# Altium integrated library Silicon Labs Interface.IntLib: 24 symbols (part 1 of 2)
Pins are listed as number, name and electrical type; pins without a type are passive.

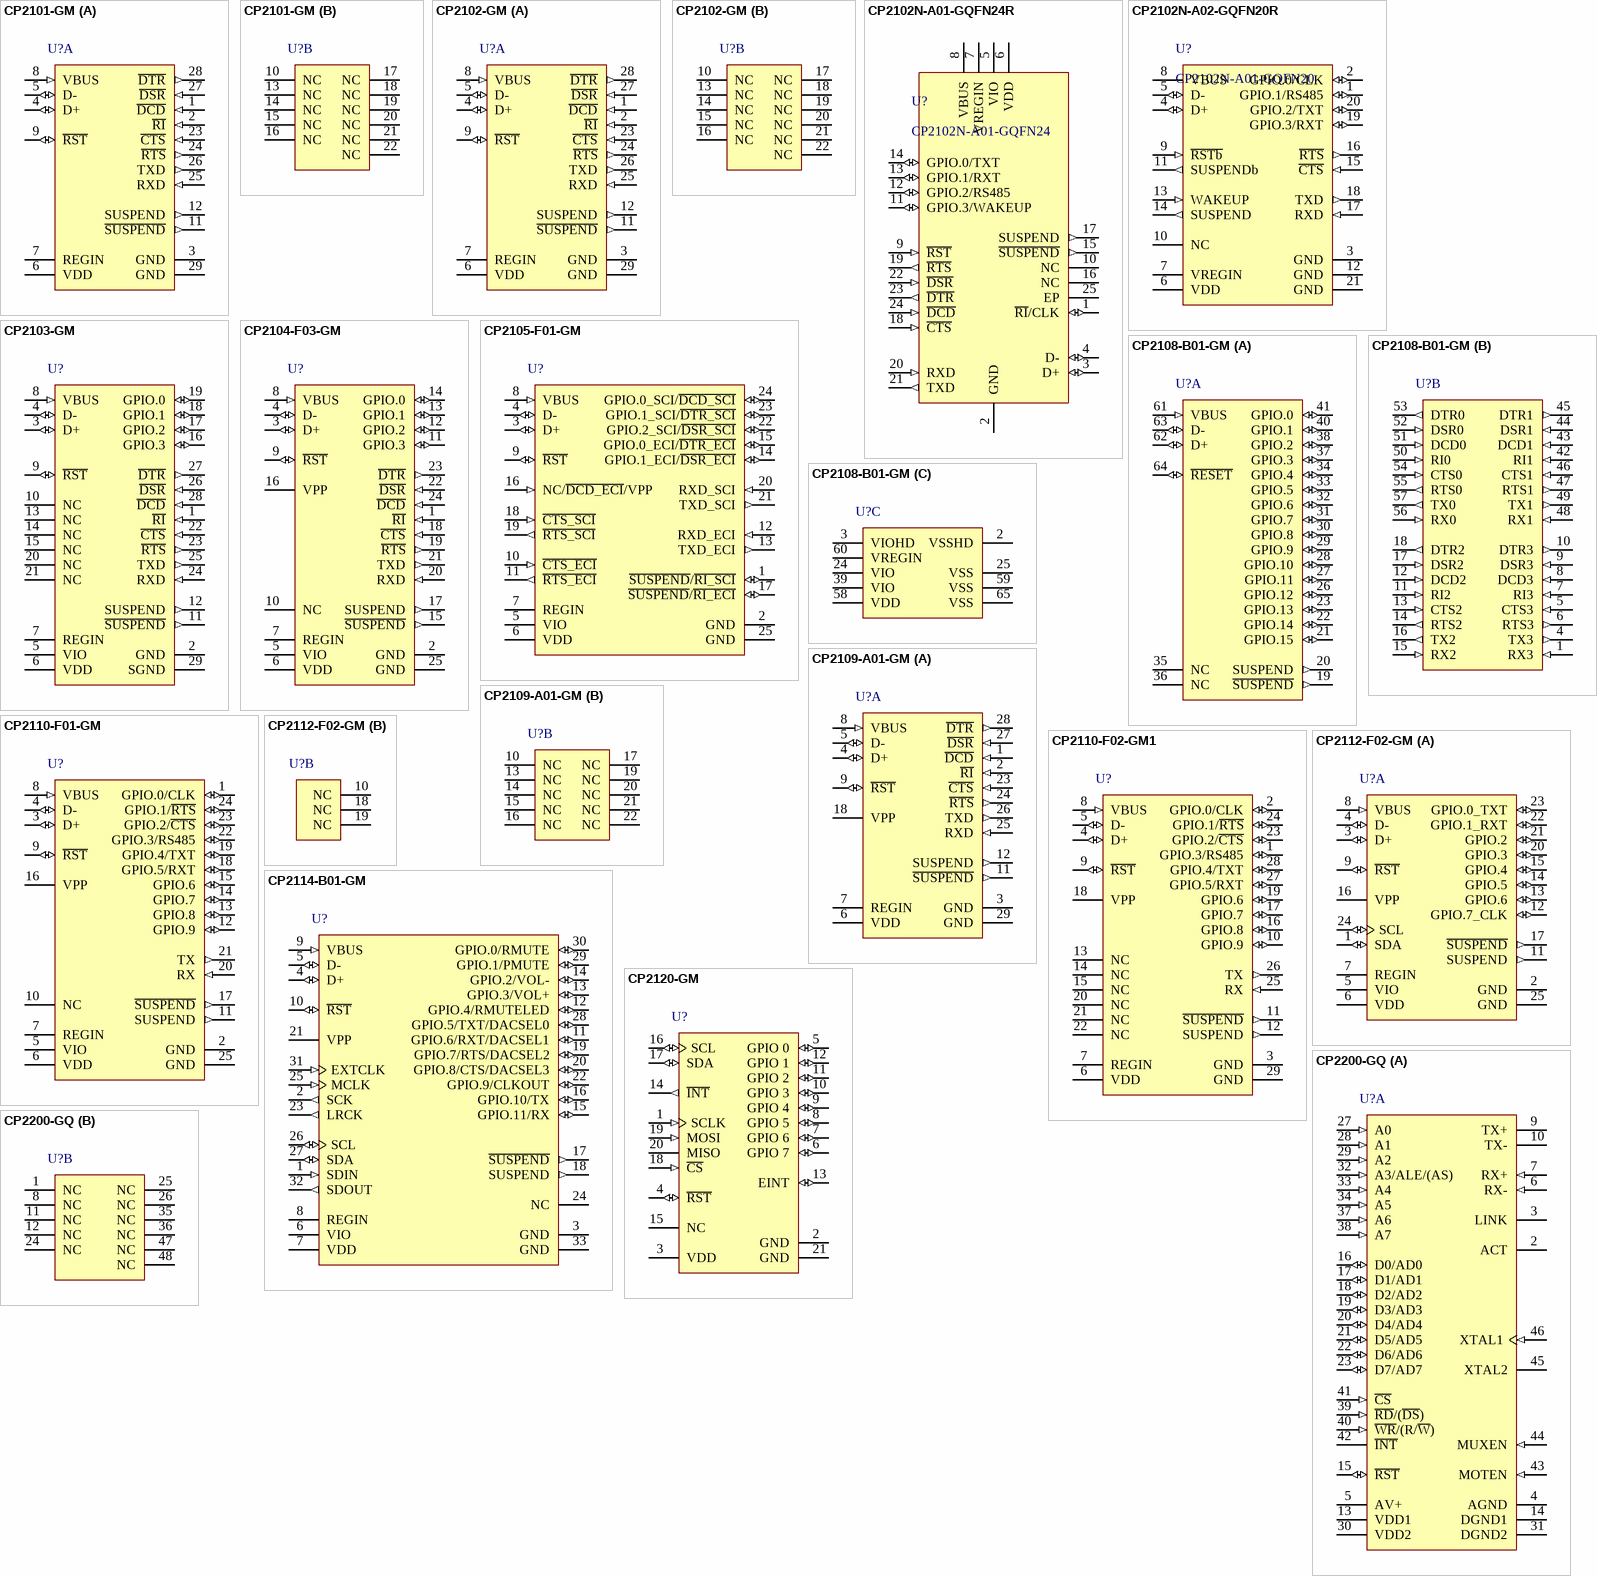
[diagram p0: symbols CP2101-GM to CP2200-GQ]

## CP2101-GM
designator U?
Single-Chip USB to UART Bridge, 512 Bytes EEPROM, -40 to 85 degC, 28-pin QFN, Tube; Manufacturer: Silicon Labs; PartNumber: CP2101-GM; Internal Oscillator: TRUE; Sub-Family: USB Bridges; DatasheetVersion: Rev. 1.8; PackageReference: QFN-28; PackageDescription: 28-Pin Quad-Flat No-Leads Package, Body 5 x 5 mm, Pitch 0.5 mm; Supplier 1: Digi-Key; Supplier Part Number 1: 336-1162-ND; Supplier 2: Mouser; Supplier Part Number 2: 634-CP2101-GM; EEPROM: 512 Bytes; Mounting Technology: Surface Mount; ComponentLink1Description: Manufacturer URL; ComponentLink1URL: http://www.silabs.com/; ComponentLink2Description: Datasheet; ComponentLink2URL: http://www.silabs.com/Support%20Documents/TechnicalDocs/CP2101.pdf; ComponentLink3Description: Package Specification; ComponentLink3URL: http://www.silabs.com/Support%20Documents/TechnicalDocs/C8051F35x.pdf
footprint SLAB-QFN-28-3125x3125TP_A_N (QFN, 28-Leads, Body 5x5mm, Pitch 0.5mm, Thermal Pad 3.13x3.13mm, IPC Medium Density)
footprint SLAB-QFN-28-3125x3125TP_A_L (QFN, 28-Leads, Body 5x5mm, Pitch 0.5mm, Thermal Pad 3.13x3.13mm, IPC High Density)
footprint SLAB-QFN-28-3125x3125TP_A_M (QFN, 28-Leads, Body 5x5mm, Pitch 0.5mm, Thermal Pad 3.13x3.13mm, IPC Low Density)
part A pins: 1 ~{DCD} (in) "Data Carrier Detect control input (active low)", 2 ~{RI} (in) "Ring Indicator control input (active low)", 3 GND (power) "Ground", 4 D+ (io) "USB D+", 5 D- (io) "USB D-", 6 VDD (power) "3.0-3.6 V Power Supply Voltage Input. 3.3 V Voltage Regulator Output", 7 REGIN (power) "5 V Regulator Input. This pin is the input to the on-chip voltage regulator.", 8 VBUS (in) "VBUS Sense Input. This pin should be connected to the VBUS signal of a USB network. A 5 V signal on this pin indicates a USB network connection.", 9 ~{RST} (io) "Device Reset. Open-drain output of internal POR or VDD monitor. An external source can initiate a system reset by driving this pin low for at least 15 us.", 11 ~{SUSPEND} (out), 12 SUSPEND (out), 23 ~{CTS} (in) "Clear To Send control input (active low)", 24 ~{RTS} (out) "Ready to Send control output (active low)", 25 RXD (in) "Asynchronous data input (UART Receive)", 26 TXD (out) "Asynchronous data output (UART Transmit)", 27 ~{DSR} (in) "Data Set Ready control input (active low)", 28 ~{DTR} (out) "Data Terminal Ready control output (active low)", 29 GND (power) "Ground"
part B pins: 10 NC "These pins should be left unconnected or tied to VDD.", 13 NC "These pins should be left unconnected or tied to VDD.", 14 NC "These pins should be left unconnected or tied to VDD.", 15 NC "These pins should be left unconnected or tied to VDD.", 16 NC "These pins should be left unconnected or tied to VDD.", 17 NC "These pins should be left unconnected or tied to VDD.", 18 NC "These pins should be left unconnected or tied to VDD.", 19 NC "These pins should be left unconnected or tied to VDD.", 20 NC "These pins should be left unconnected or tied to VDD.", 21 NC "These pins should be left unconnected or tied to VDD.", 22 NC "These pins should be left unconnected or tied to VDD."

## CP2102-GM
designator U?
Single-Chip USB to UART Bridge, 1024 Bytes EEPROM, -40 to 85 degC, 28-pin QFN, Tube; Manufacturer: Silicon Labs; PartNumber: CP2102-GM; Internal Oscillator: TRUE; Sub-Family: USB Bridges; DatasheetVersion: Rev. 1.5; PackageReference: QFN-28; PackageDescription: 28-Pin Quad-Flat No-Leads Package, Body 5 x 5 mm, Pitch 0.5 mm; Supplier 1: Digi-Key; Supplier Part Number 1: 336-1160-5-ND; Supplier 2: Farnell; Supplier Part Number 2: 9282130; Supplier 3: Newark; Supplier Part Number 3: 30K5635; Supplier 4: Mouser; Supplier Part Number 4: 634-CP2102-GM; EEPROM: 1024 Bytes; Mounting Technology: Surface Mount; Code_JEDEC: MO-220; Code_IPC: J-STD-020C; ComponentLink1Description: Manufacturer URL; ComponentLink1URL: http://www.silabs.com/; ComponentLink2Description: Datasheet; ComponentLink2URL: http://www.silabs.com/Support%20Documents/TechnicalDocs/CP2102-9.pdf; ComponentLink3Description: Package Specification; ComponentLink3URL: http://www.silabs.com/Support%20Documents/TechnicalDocs/C8051T61x.pdf
footprint SLAB-QFN-28-3125x3125TP_N (QFN, 28-Leads, Body 5x5mm, Pitch 0.5mm, Thermal Pad 3.13x3.13mm, IPC Medium Density)
footprint SLAB-QFN-28-3125x3125TP_L (QFN, 28-Leads, Body 5x5mm, Pitch 0.5mm, Thermal Pad 3.13x3.13mm, IPC High Density)
footprint SLAB-QFN-28-3125x3125TP_M (QFN, 28-Leads, Body 5x5mm, Pitch 0.5mm, Thermal Pad 3.13x3.13mm, IPC Low Density)
part A pins: 1 ~{DCD} (in) "Data Carrier Detect control input (active low)", 2 ~{RI} (in) "Ring Indicator control input (active low)", 3 GND (power) "Ground", 4 D+ (io) "USB D+", 5 D- (io) "USB D-", 6 VDD (power) "3.0-3.6 V Power Supply Voltage Input. 3.3 V Voltage Regulator Output", 7 REGIN (power) "5 V Regulator Input. This pin is the input to the on-chip voltage regulator.", 8 VBUS (in) "VBUS Sense Input. This pin should be connected to the VBUS signal of a USB network. A 5 V signal on this pin indicates a USB network connection.", 9 ~{RST} (io) "Device Reset. Open-drain output of internal POR or VDD monitor. An external source can initiate a system reset by driving this pin low for at least 15 us.", 11 ~{SUSPEND} (out), 12 SUSPEND (out), 23 ~{CTS} (in) "Clear To Send control input (active low)", 24 ~{RTS} (out) "Ready to Send control output (active low)", 25 RXD (in) "Asynchronous data input (UART Receive)", 26 TXD (out) "Asynchronous data output (UART Transmit)", 27 ~{DSR} (in) "Data Set Ready control input (active low)", 28 ~{DTR} (out) "Data Terminal Ready control output (active low)", 29 GND (power) "Ground"
part B pins: 10 NC "These pins should be left unconnected or tied to VDD.", 13 NC "These pins should be left unconnected or tied to VDD.", 14 NC "These pins should be left unconnected or tied to VDD.", 15 NC "These pins should be left unconnected or tied to VDD.", 16 NC "These pins should be left unconnected or tied to VDD.", 17 NC "These pins should be left unconnected or tied to VDD.", 18 NC "These pins should be left unconnected or tied to VDD.", 19 NC "These pins should be left unconnected or tied to VDD.", 20 NC "These pins should be left unconnected or tied to VDD.", 21 NC "These pins should be left unconnected or tied to VDD.", 22 NC "These pins should be left unconnected or tied to VDD."

## CP2102N-A01-GQFN24R
designator U?, comment CP2102N-A01-GQFN24
USBXpress(TM) Family, 4 GPIOs, 2.2 to 3.6 V, -40 to 85 degC, 24-Pin QFN, RoHS; Manufacturer: Silicon Labs; Max Supply Voltage: 3.6V; Min Supply Voltage: 3V; Datasheet Version: Rev. 1.1, 08/2016; Max Operating Temperature: 85degC; Case\/Package: QFN; Number of Pins: 24; Min Operating Temperature: -40degC; Mounting Technology: SurfaceMount; Manufacturer URL: http://www.silabs.com/; RoHSCompliant: False; Package Reference: QFN-24-2550x2550TP_A; Datasheet URL: http://www.silabs.com/documents/public/data-sheets/cp2102n-datasheet.pdf; Package Description: 24-Pin Quad Flat No-lead Package, Body 4 x 4 mm, Pitch 0.5 mm; REACH SVHC: Unknown
footprint SLAB-QFN-24-2550x2550TP_A_V (QFN, 6-Leads, Body 4x4mm, Pitch 0.5mm, Thermal Pad 2.55x2.55mm)
pins: 1 ~{RI}/CLK (io), 2 GND (power) "Ground", 3 D+ (io) "USB Data Positive", 4 D- (io) "USB Data Negative", 5 VIO (power) "I/O Supply Power Input", 6 VDD (power) "Supply Power Input / 5V Regulator Output", 7 VREGIN (power) "5V Regulator Input", 8 VBUS (power) "Digital Input. VBUS Sense Input. This pin should be connected to the VBUS signal of a USB network. A 5 V signal on this pin indicates a USB network connection.", 9 ~{RST} (in) "Active-low Reset", 10 NC "No Connect (leave this pin floating).", 11 GPIO.3/WAKEUP (io) "Digital Output. This pin is driven low when the device enters the USB suspend state.", 12 GPIO.2/RS485 (io) "Ground", 13 GPIO.1/RXT (io) "Digital Input. Remote USB wakeup interrupt input.", 14 GPIO.0/TXT (io) "Digital Output. This pin is driven high when the device enters the USB suspend state", 15 ~{SUSPEND} (out) "Digital Output. This pin is driven low when the device enters the USB suspend state.", 16 NC "No Connect (leave this pin floating).", 17 SUSPEND (out) "Digital Output. This pin is driven high when the device enters the USB suspend state.", 18 ~{CTS} (in) "Digital Input. Clear To Send control input (active low).", 19 ~{RTS} (out) "Digital Output. Ready To Send control output (active low).", 20 RXD (in) "Digital Input. Asynchronous data input (UART Receive).", 21 TXD (out) "Digital Output. Asynchronous data output (UART Transmit).", 22 ~{DSR} (in) "Digital Input. Data Set Ready control input (active low).", 23 ~{DTR} (out) "Digital Output. Data Terminal Ready control output (active low).", 24 ~{DCD} (in) "Digital Input. Data Carrier Detect control input (active low).", 25 EP (power) "Ground"

## CP2102N-A02-GQFN20R
designator U?, comment CP2102N-A01-GQFN20
USBXpress(TM) Family, 4 GPIOs, 2.2 to 3.6 V, -40 to 85 degC, 20-Pin QFN, RoHS; Manufacturer: Silicon Labs; Min Supply Voltage: 3V; Max Supply Voltage: 3.6V; Mounting Technology: SurfaceMount; Package Description: 20-Pin Quad Flat No-lead Package, Body 3 x 3 mm, Pitch 0.5 mm; Max Operating Temperature: 85degC; Case\/Package: QFN; RoHSCompliant: false; Datasheet Version: Rev. 1.1, 08/2016; REACH SVHC: Unknown; Min Operating Temperature: -40degC; Manufacturer URL: http://www.silabs.com/; Package Reference: CP2102N-A01-GQFN20; Datasheet URL: https://www.silabs.com/documents/public/data-sheets/cp2102n-datasheet.pdf; Number of Pins: 20
footprint SLAB-CP2102N-A01-GQFN20_V (QFN, 20-Leads, Body 3x3mm, Pitch 0.5mm, Thermal Pad 1.8x1.8mm)
pins: 1 GPIO.1/RS485 (io), 2 GPIO.0/CLK (io), 3 GND (power) "Ground", 4 D+ (io) "USB Data Positive", 5 D- (io) "USB Data Negative", 6 VDD (power) "Supply Power Input/5V Regulator Output", 7 VREGIN (power) "5V Regulator Input", 8 VBUS (power) "Digital Input. VBUS Sense Input. This pin should be connected to the VBUS signal of a USBnetwork. A 5 V signal on this pin indicates a USB network connection", 9 ~{RSTb} (in) "Active-low Reset", 10 NC "No Connect (leave this pin floating)", 11 SUSPENDb (out) "Digital Output. This pin is driven low when the device enters the USB suspend state.", 12 GND (power) "Ground", 13 WAKEUP (in) "Digital Input. Remote USB wakeup interrupt input.", 14 SUSPEND (out) "Digital Output. This pin is driven high when the device enters the USB suspend state", 15 ~{CTS} (in) "Digital Input. Clear To Send control input (active low).", 16 ~{RTS} (out) "Digital Output. Ready To Send control output (active low).", 17 RXD (in) "Digital Input. Asynchronous data input (UART Receive).", 18 TXD (out) "Digital Output. Asynchronous data output (UART Transmit)", 19 GPIO.3/RXT (io), 20 GPIO.2/TXT (io), 21 GND (power) "Ground"

## CP2103-GM
designator U?
Single-Chip USB to UART Bridge, 1024 Bytes EEPROM, -40 to 85 degC, 28-pin QFN, Tube; Manufacturer: Silicon Labs; PartNumber: CP2103-GM; Internal Oscillator: TRUE; Sub-Family: USB Bridges; DatasheetVersion: Rev. 1.0; PackageReference: QFN-28; PackageDescription: 28-Pin Quad-Flat No-Leads Package, Body 5 x 5 mm, Pitch 0.5 mm; Supplier 1: Digi-Key; Supplier Part Number 1: 336-1164-ND; Supplier 2: Farnell; Supplier Part Number 2: 1291538; Supplier 3: Newark; Supplier Part Number 3: 24M1109; Supplier 4: Mouser; Supplier Part Number 4: 634-CP2103-GM; EEPROM: 1024 Bytes; Mounting Technology: Surface Mount; ComponentLink1Description: Manufacturer URL; ComponentLink1URL: http://www.silabs.com/; ComponentLink2Description: Datasheet; ComponentLink2URL: http://www.silabs.com/Support%20Documents/TechnicalDocs/CP2103.pdf; ComponentLink3Description: Package Specification; ComponentLink3URL: http://www.silabs.com/Support%20Documents/TechnicalDocs/C8051F35x.pdf
footprint SLAB-QFN-28-3125x3125TP_A_N (QFN, 28-Leads, Body 5x5mm, Pitch 0.5mm, Thermal Pad 3.13x3.13mm, IPC Medium Density)
footprint SLAB-QFN-28-3125x3125TP_A_L (QFN, 28-Leads, Body 5x5mm, Pitch 0.5mm, Thermal Pad 3.13x3.13mm, IPC High Density)
footprint SLAB-QFN-28-3125x3125TP_A_M (QFN, 28-Leads, Body 5x5mm, Pitch 0.5mm, Thermal Pad 3.13x3.13mm, IPC Low Density)
pins: 1 ~{RI} (in) "Ring Indicator control input (active low)", 2 GND (power) "Ground. Must be tied to ground.", 3 D+ (io) "USB D+", 4 D- (io) "USB D-", 5 VIO (power) "1.8 V to VDD I/O Supply Voltage Input.", 6 VDD (power) "3.0-3.6 V Power Supply Voltage Input. 3.3 V Voltage Regulator Output.", 7 REGIN (power) "5 V Regulator Input. This pin is the input to the on-chip voltage regulator.", 8 VBUS (in) "VBUS Sense Input. This pin should be connected to the VBUS signal of a USB network. A 5 V signal on this pin indicates a USB network connection.", 9 ~{RST} (io) "Device Reset. Open-drain output of internal POR or VDD monitor. An external source can initiate a system reset by driving this pin low for at least 15 us.", 10 NC "These pins should be left unconnected or tied to VDD.", 11 ~{SUSPEND} (out) "This pin is driven low when the CP2103 enters the USB suspend state.", 12 SUSPEND (out) "This pin is driven high when the CP2103 enters the USB suspend state.", 13 NC "These pins should be left unconnected or tied to VDD.", 14 NC "These pins should be left unconnected or tied to VDD.", 15 NC "These pins should be left unconnected or tied to VDD.", 16 GPIO.3 (io) "User-configurable input or output.", 17 GPIO.2 (io) "User-configurable input or output.", 18 GPIO.1 (io) "User-configurable input or output.", 19 GPIO.0 (io) "User-configurable input or output.", 20 NC "These pins should be left unconnected or tied to VDD.", 21 NC "These pins should be left unconnected or tied to VDD.", 22 ~{CTS} (in) "Clear To Send control input (active low)", 23 ~{RTS} (out) "Ready to Send control output (active low)", 24 RXD (in) "Asynchronous data input (UART Receive)", 25 TXD (out) "Asynchronous data output (UART Transmit)", 26 ~{DSR} (in) "Data Set Ready control input (active low)", 27 ~{DTR} (out) "Data Terminal Ready control output (active low)", 28 ~{DCD} (in) "Data Carrier Detect control input (active low)", 29 SGND (power) "Ground. Must be tied to ground."

## CP2104-F03-GM
designator U?
Single-Chip USB to UART Bridge, 4 Dig I/O Pins, Internal Oscillator, 1024 Bytes EEPROM, -40 to 85 degC, 24-pin QFN; Manufacturer: Silicon Labs; PartNumber: CP2104-F03-GM; Internal Oscillator: TRUE; Sub-Family: USB Bridges; DatasheetVersion: Rev. 1.0; PackageReference: QFN-24; PackageDescription: 24-Pin Quad-Flat No-Leads Package, Body 4 x 4 mm, Pitch 0.5 mm; Supplier 1: Digi-Key; Supplier Part Number 1: 336-2008-5-ND; Supplier 2: Mouser; Supplier Part Number 2: 634-CP2104-F03-GM; EEPROM: 1024 Bytes; Mounting Technology: Surface Mount; Code_JEDEC: MO-220; Code_IPC: J-STD-020; ComponentLink1Description: Manufacturer URL; ComponentLink1URL: http://www.silabs.com/; ComponentLink2Description: Datasheet; ComponentLink2URL: http://www.silabs.com/Support%20Documents/TechnicalDocs/cp2104.pdf; ComponentLink3Description: Package Specification; ComponentLink3URL: http://www.silabs.com/Support%20Documents/TechnicalDocs/C8051F93x-92x.pdf
footprint SLAB-QFN-24-2675x2675TP_N (QFN, 24-Leads, Body 4x4mm, Pitch 0.5mm, Thermal Pad 2.68x2.68mm, IPC Medium Density)
footprint SLAB-QFN-24-2675x2675TP_L (QFN, 24-Leads, Body 4x4mm, Pitch 0.5mm, Thermal Pad 2.68x2.68mm, IPC High Density)
footprint SLAB-QFN-24-2675x2675TP_M (QFN, 24-Leads, Body 4x4mm, Pitch 0.5mm, Thermal Pad 2.68x2.68mm, IPC Low Density)
pins: 1 ~{RI} (in) "Ring Indicator control input (active low)", 2 GND (power) "Ground. Must be tied to ground.", 3 D+ (io) "USB D+", 4 D- (io) "USB D-", 5 VIO (power) "I/O Supply Voltage Input.", 6 VDD (power) "Power Supply Voltage Input. Voltage Regulator Output. See Section 9.", 7 REGIN (power) "5 V Regulator Input. This pin is the input to the on-chip voltage regulator.", 8 VBUS (in) "VBUS Sense Input. This pin should be connected to the VBUS signal of a USB network.", 9 ~{RST} (io) "Device Reset. Open-drain output of internal POR or VDD monitor. An external source can initiate a system reset by driving this pin low for the time specified in Table 4.", 10 NC "This pin should be left unconnected or tied to VIO.", 11 GPIO.3 (io) "User-configurable input or output.", 12 GPIO.2 (io) "User-configurable input or output.", 13 GPIO.1 (io) "User-configurable input or output.", 14 GPIO.0 (io) "User-configurable input or output.", 15 ~{SUSPEND} (out) "This pin is logic low when the CP2104 is in the USB Suspend state.", 16 VPP "Connect a 4.7 uF capacitor between this pin and ground to support ROM programming via USB interface.", 17 SUSPEND (out) "This pin is logic high when the CP2104 is in the USB Suspend state.", 18 ~{CTS} (in) "Clear to Send control input (active low)", 19 ~{RTS} (out) "Ready to Send control output (active low)", 20 RXD (in) "Asynchronous data input (UART Receive)", 21 TXD (out) "Asynchronous data output (UART Transmit)", 22 ~{DSR} (in) "Data Set Ready control input (active low)", 23 ~{DTR} (out) "Data Terminal Ready control output (active low)", 24 ~{DCD} (in) "Data Carrier Detect control input (active low)", 25 GND (power)

## CP2105-F01-GM
designator U?
Single-Chip USB to Dual UART Bridge, 5 Dig I/O Pins, Internal Oscillator, 296 Bytes EEPROM, -40 to 85 degC, 24-pin QFN; Manufacturer: Silicon Labs; PartNumber: CP2105-F01-GM; Internal Oscillator: TRUE; Sub-Family: USB Bridges; DatasheetVersion: Rev. 1.0; PackageReference: QFN-24; PackageDescription: 24-Pin Quad-Flat No-Leads Package, Body 4 x 4 mm, Pitch 0.5 mm; Supplier 1: Digi-Key; Supplier Part Number 1: 336-2009-5-ND; Supplier 2: Mouser; Supplier Part Number 2: 634-CP2105-F01-GM; EEPROM: 296 Bytes; Mounting Technology: Surface Mount; Code_JEDEC: MO-220; Code_IPC: J-STD-020; ComponentLink1Description: Manufacturer URL; ComponentLink1URL: http://www.silabs.com/; ComponentLink2Description: Datasheet; ComponentLink2URL: http://www.silabs.com/Support%20Documents/TechnicalDocs/CP2105.pdf; ComponentLink3Description: Package Specification; ComponentLink3URL: http://www.silabs.com/Support%20Documents/TechnicalDocs/C8051F93x-92x.pdf
footprint SLAB-QFN-24-2675x2675TP_N (QFN, 24-Leads, Body 4x4mm, Pitch 0.5mm, Thermal Pad 2.68x2.68mm, IPC Medium Density)
footprint SLAB-QFN-24-2675x2675TP_L (QFN, 24-Leads, Body 4x4mm, Pitch 0.5mm, Thermal Pad 2.68x2.68mm, IPC High Density)
footprint SLAB-QFN-24-2675x2675TP_M (QFN, 24-Leads, Body 4x4mm, Pitch 0.5mm, Thermal Pad 2.68x2.68mm, IPC Low Density)
pins: 1 ~{SUSPEND}/~{RI_SCI} (io), 2 GND (power) "Ground. Must be tied to ground.", 3 D+ (io) "USB D+", 4 D- (io) "USB D-", 5 VIO (power) "I/O Supply Voltage Input.", 6 VDD (power) "Power Supply Voltage Input. Voltage Regulator Output. See Section 10.", 7 REGIN (power) "5 V Regulator Input. This pin is the input to the on-chip voltage regulator.", 8 VBUS (in) "VBUS Sense Input. This pin should be connected to the VBUS signal of a USB network.", 9 ~{RST} (io) "Device Reset. Open-drain output of internal POR or VDD monitor. An external source can initiate a system reset by driving this pin low for the time specified in Table 4.", 10 ~{CTS_ECI} (in) "Clear To Send control input (active low) for the Enhanced Comm Interface.", 11 ~{RTS_ECI} (out) "Ready to Send control output (active low) for the Enhanced Comm Interface.", 12 RXD_ECI (in) "Asynchronous data input (UART Receive) for the Enhanced Comm Interface.", 13 TXD_ECI (out) "Asynchronous data output (UART Transmit) for the Enhanced Comm Interface.", 14 GPIO.1_ECI/~{DSR_ECI} (io), 15 GPIO.0_ECI/~{DTR_ECI} (io), 16 NC/~{DCD_ECI}/VPP (in), 17 ~{SUSPEND}/~{RI_ECI} (io), 18 ~{CTS_SCI} (in) "Clear To Send control input (active low) for the Standard Comm Interface.", 19 ~{RTS_SCI} (out) "Ready to Send control output (active low) for the Standard Comm Interface.", 20 RXD_SCI (in) "Asynchronous data input (UART Receive) for the Standard Comm Interface.", 21 TXD_SCI (out) "Asynchronous data output (UART Transmit) for the Standard Comm Interface.", 22 GPIO.2_SCI/~{DSR_SCI} (io), 23 GPIO.1_SCI/~{DTR_SCI} (io), 24 GPIO.0_SCI/~{DCD_SCI} (io), 25 GND (power)

## CP2108-B01-GM
designator U?
Single-Chip USB to Quad UART Bridge, -40 to 85 degC, 64-pin QFN, Tray; Manufacturer: Silicon Labs; PartNumber: CP2108-B01-GM; Internal Oscillator: TRUE; Sub-Family: USB Bridges; DatasheetVersion: Rev. 1.0; PackageReference: QFN-64; PackageDescription: 64-Pin Quad-Flat No-Leads Package, Body 9 x 9 mm, Pitch 0.5 mm; Supplier 1: Digi-Key; Supplier Part Number 1: 336-2403-ND; Supplier 2: Mouser; Supplier Part Number 2: 634-CP2108-B01-GM; Mounting Technology: Surface Mount; Code_JEDEC: MO-220; Code_IPC: J-STD-020; ComponentLink1Description: Manufacturer URL; ComponentLink1URL: http://www.silabs.com/; ComponentLink2Description: Datasheet; ComponentLink2URL: http://www.silabs.com/Support%20Documents/TechnicalDocs/CP2108.pdf; ComponentLink3Description: Package Specification; ComponentLink3URL: http://www.silabs.com/Support%20Documents/TechnicalDocs/SiM3U1xx.pdf
footprint SLAB-QFN-64-4100x4100TP_N (QFN, 64-Leads, Body 9x9mm, Pitch 0.5mm, Thermal Pad 4.1x4.1mm, IPC Medium Density)
footprint SLAB-QFN-64-4100x4100TP_L (QFN, 64-Leads, Body 9x9mm, Pitch 0.5mm, Thermal Pad 4.1x4.1mm, IPC High Density)
footprint SLAB-QFN-64-4100x4100TP_M (QFN, 64-Leads, Body 9x9mm, Pitch 0.5mm, Thermal Pad 4.1x4.1mm, IPC Low Density)
part A pins: 19 ~{SUSPEND} (out) "Suspend Indicator - Active Low", 20 SUSPEND (out) "Suspend Indicator - Active High", 21 GPIO.15 (io) "General Purpose I/O 15", 22 GPIO.14 (io) "General Purpose I/O 14", 23 GPIO.13 (io) "General Purpose I/O 13", 26 GPIO.12 (io) "General Purpose I/O 12", 27 GPIO.11 (io) "General Purpose I/O 11", 28 GPIO.10 (io) "General Purpose I/O 10", 29 GPIO.9 (io) "General Purpose I/O 9", 30 GPIO.8 (io) "General Purpose I/O 8", 31 GPIO.7 (io) "General Purpose I/O 7", 32 GPIO.6 (io) "General Purpose I/O 6", 33 GPIO.5 (io) "General Purpose I/O 5", 34 GPIO.4 (io) "General Purpose I/O 4", 35 NC, 36 NC, 37 GPIO.3 (io) "General Purpose I/O 3", 38 GPIO.2 (io) "General Purpose I/O 2", 40 GPIO.1 (io) "General Purpose I/O 1", 41 GPIO.0 (io) "General Purpose I/O 0", 61 VBUS (in) "VBUS Sense Input. This pin should be connected to the VBUS signal of a USB network.", 62 D+ (io) "USB D+", 63 D- (io) "USB D-", 64 ~{RESET} (io) "Device Reset. Open-drain output of internal POR or VDD monitor. An external source can initiate a system reset by driving this pin low for the time specified in Table 4."
part B pins: 1 RX3 (in) "UART 3 Receive (RX) High Drive", 4 TX3 (out) "UART 3 Transmit (TX) High Drive", 5 CTS3 (in) "UART 3 Clear to Send (CTS) High Drive", 6 RTS3 (out) "UART 3 Ready to Send (RTS) High Drive", 7 RI3 (in) "UART 3 Ring Indicator (RI)", 8 DCD3 (in) "UART 3 Data Carrier Detect (DCD)", 9 DSR3 (in) "UART 3 Data Set Ready (DSR)", 10 DTR3 (out) "UART 3 Data Terminal Ready (DTR)", 11 RI2 (in) "UART 2 Ring Indicator (RI)", 12 DCD2 (in) "UART 2 Data Carrier Detect (DCD)", 13 CTS2 (in) "UART 2 Clear to Send (CTS)", 14 RTS2 (out) "UART 2 Ready to Send (RTS)", 15 RX2 (in) "UART 2 Receive (RX)", 16 TX2 (out) "UART 2 Transmit (TX)", 17 DSR2 (in) "UART 2 Data Set Ready (DSR)", 18 DTR2 (out) "UART 2 Data Terminal Ready (DTR)", 42 RI1 (in) "UART 1 Ring Indicator (RI)", 43 DCD1 (in) "UART 1 Data Carrier Detect (DCD)", 44 DSR1 (in) "UART 1 Data Set Ready (DSR)", 45 DTR1 (out) "UART 1 Data Terminal Ready (DTR)", 46 CTS1 (in) "UART 1 Clear to Send (CTS)", 47 RTS1 (out) "UART 1 Ready to Send (RTS)", 48 RX1 (in) "UART 1 Receive (RX)", 49 TX1 (out) "UART 1 Transmit (TX)", 50 RI0 (in) "UART 0 Ring Indicator (RI) Indicates that a telephone ringing signal has been detected by the modem", 51 DCD0 (in) "UART 0 Data Carrier Detect (DCD) Indicates that the data carrier has been detected by the modem", 52 DSR0 (in) "UART 0 Data Set Ready (DSR) Indicates that the modem is ready to establish the communications link with the UART", 53 DTR0 (out) "UART 0 Data Terminal Ready (DTR) Informs the modem that the UART is ready to establish a communications link.", 54 CTS0 (in) "UART 0 Clear to Send (CTS) Indicates the modem is ready to send data to the UART", 55 RTS0 (out) "UART 0 Ready to Send (RTS) Indicates to the modem that the UART is ready to receive data.", 56 RX0 (in) "UART 0 Receive (RX)", 57 TX0 (out) "UART 0 Transmit (TX)"
part C pins: 2 VSSHD (power) "High Drive Device Ground UART 3 pins 1-6. Connect to Device Ground.", 3 VIOHD (power) "High Drive I/O Supply Voltage Input", 24 VIO (power) "Non High Drive I/O Supply Voltage Input", 25 VSS (power) "Device Ground", 39 VIO (power) "Non High Drive I/O Supply Voltage Input", 58 VDD (power) "Power Supply Voltage Input Voltage Regulator Output", 59 VSS (power) "Device Ground", 60 VREGIN (power) "Voltage Regulator Input. This pin is the input to the on-chip voltage regulator.", 65 VSS (power)

## CP2109-A01-GM
designator U?
Single-Chip USB to UART Bridge, 1024 Bytes EEPROM, -40 to 85 degC, 28-pin QFN, Tube; Manufacturer: Silicon Labs; PartNumber: CP2109-A01-GM; Internal Oscillator: TRUE; Sub-Family: USB Bridges; DatasheetVersion: Rev. 1.5; PackageReference: QFN-28; PackageDescription: 28-Pin Quad-Flat No-Leads Package, Body 5 x 5 mm, Pitch 0.5 mm; Supplier 1: Digi-Key; Supplier Part Number 1: 336-2409-5-ND; Supplier 2: Mouser; Supplier Part Number 2: 634-CP2109-A01-GM; EEPROM: 1024 Bytes; Mounting Technology: Surface Mount; Code_JEDEC: MO-220; Code_IPC: J-STD-020C; ComponentLink1Description: Manufacturer URL; ComponentLink1URL: http://www.silabs.com/; ComponentLink2Description: Datasheet; ComponentLink2URL: http://www.silabs.com/Support%20Documents/TechnicalDocs/CP2102-9.pdf; ComponentLink3Description: Package Specification; ComponentLink3URL: http://www.silabs.com/Support%20Documents/TechnicalDocs/C8051T61x.pdf
footprint SLAB-QFN-28-3125x3125TP_N (QFN, 28-Leads, Body 5x5mm, Pitch 0.5mm, Thermal Pad 3.13x3.13mm, IPC Medium Density)
footprint SLAB-QFN-28-3125x3125TP_L (QFN, 28-Leads, Body 5x5mm, Pitch 0.5mm, Thermal Pad 3.13x3.13mm, IPC High Density)
footprint SLAB-QFN-28-3125x3125TP_M (QFN, 28-Leads, Body 5x5mm, Pitch 0.5mm, Thermal Pad 3.13x3.13mm, IPC Low Density)
part A pins: 1 ~{DCD} (in) "Data Carrier Detect control input (active low)", 2 ~{RI} (in) "Ring Indicator control input (active low)", 3 GND (power) "Ground", 4 D+ (io) "USB D+", 5 D- (io) "USB D-", 6 VDD (power) "3.0-3.6 V Power Supply Voltage Input. 3.3 V Voltage Regulator Output", 7 REGIN (power) "5 V Regulator Input. This pin is the input to the on-chip voltage regulator.", 8 VBUS (in) "VBUS Sense Input. This pin should be connected to the VBUS signal of a USB network. A 5 V signal on this pin indicates a USB network connection.", 9 ~{RST} (io) "Device Reset. Open-drain output of internal POR or VDD monitor. An external source can initiate a system reset by driving this pin low for at least 15 us.", 11 ~{SUSPEND} (out) "This pin is driven low when the CP2102/9 enters the USB suspend state.", 12 SUSPEND (out) "This pin is driven high when the CP2102/9 enters the USB suspend state.", 18 VPP "VPP Programming Supply Voltage", 23 ~{CTS} (in) "Clear To Send control input (active low)", 24 ~{RTS} (out) "Ready to Send control output (active low)", 25 RXD (in) "Asynchronous data input (UART Receive)", 26 TXD (out) "Asynchronous data output (UART Transmit)", 27 ~{DSR} (in) "Data Set Ready control input (active low)", 28 ~{DTR} (out) "Data Terminal Ready control output (active low)", 29 GND (power) "Ground"
part B pins: 10 NC "These pins should be left unconnected or tied to VDD.", 13 NC "These pins should be left unconnected or tied to VDD.", 14 NC "These pins should be left unconnected or tied to VDD.", 15 NC "These pins should be left unconnected or tied to VDD.", 16 NC "These pins should be left unconnected or tied to VDD.", 17 NC "These pins should be left unconnected or tied to VDD.", 19 NC "These pins should be left unconnected or tied to VDD.", 20 NC "These pins should be left unconnected or tied to VDD.", 21 NC "These pins should be left unconnected or tied to VDD.", 22 NC "These pins should be left unconnected or tied to VDD."

## CP2110-F01-GM
designator U?
Single-Chip HID USB to UART Bridge, 10 Dig I/O Pins, Internal Oscillator, 343 Bytes EEPROM, -40 to 85 degC, 24-pin QFN; Manufacturer: Silicon Labs; PartNumber: CP2110-F01-GM; Internal Oscillator: TRUE; Sub-Family: USB Bridges; DatasheetVersion: Rev. 1.1; PackageReference: QFN-24; PackageDescription: 24-Pin Quad-Flat No-Leads Package, Body 4 x 4 mm, Pitch 0.5 mm; Supplier 1: Digi-Key; Supplier Part Number 1: 336-2006-5-ND; Supplier 2: Mouser; Supplier Part Number 2: 634-CP2110-F01-GM; EEPROM: 343 Bytes; Mounting Technology: Surface Mount; Code_JEDEC: MO-220; Code_IPC: J-STD-020; ComponentLink1Description: Manufacturer URL; ComponentLink1URL: http://www.silabs.com/; ComponentLink2Description: Datasheet; ComponentLink2URL: http://www.silabs.com/Support%20Documents/TechnicalDocs/CP2110.pdf; ComponentLink3Description: Package Specification; ComponentLink3URL: http://www.silabs.com/Support%20Documents/TechnicalDocs/C8051F93x-92x.pdf
footprint SLAB-QFN-24-2675x2675TP_N (QFN, 24-Leads, Body 4x4mm, Pitch 0.5mm, Thermal Pad 2.68x2.68mm, IPC Medium Density)
footprint SLAB-QFN-24-2675x2675TP_L (QFN, 24-Leads, Body 4x4mm, Pitch 0.5mm, Thermal Pad 2.68x2.68mm, IPC High Density)
footprint SLAB-QFN-24-2675x2675TP_M (QFN, 24-Leads, Body 4x4mm, Pitch 0.5mm, Thermal Pad 2.68x2.68mm, IPC Low Density)
pins: 1 GPIO.0/CLK (io) "In GPIO mode, this pin is a user-configurable input or output. In CLK mode, this pin outputs a configurable frequency clock signal.", 2 GND (power) "Ground. Must be tied to ground.", 3 D+ (io) "USB D+", 4 D- (io) "USB D-", 5 VIO (power) "I/O Supply Voltage Input. Internally connected to VDD on -GM1 packages.", 6 VDD (power) "Power Supply Voltage Input. Voltage Regulator Output. See Section 10.", 7 REGIN (power) "5 V Regulator Input. This pin is the input to the on-chip voltage regulator.", 8 VBUS (in) "VBUS Sense Input. This pin should be connected to the VBUS signal of a USB network.", 9 ~{RST} (io) "Device Reset. Open-drain output of internal POR or VDD monitor. An external source can initiate a system reset by driving this pin low for the time specified in Table 4.", 10 NC "No connect. This pin should be left unconnected or tied to VIO.", 11 SUSPEND (out) "This pin is logic high when the CP2110 is in the USB Suspend state.", 12 GPIO.9 (io) "This pin is a user-configurable input or output.", 13 GPIO.8 (io) "This pin is a user-configurable input or output.", 14 GPIO.7 (io) "This pin is a user-configurable input or output.", 15 GPIO.6 (io) "This pin is a user-configurable input or output.", 16 VPP "Connect 4.7 uF capacitor between this pin and ground to support ROM programming via the USB interface.", 17 ~{SUSPEND} (out) "This pin is logic low when the CP2110 is in the USB Suspend state.", 18 GPIO.5/RXT (io) "In GPIO mode, this pin is a user-configurable input or output for the Standard Comm Interface. In RXT mode, this pin is the Receive Toggle pin. The pin is logic high when the UART is not receiving data.", 19 GPIO.4/TXT (io) "In GPIO mode, this pin is a user-configurable input or output. In TXT mode, this pin is the Transmit Toggle pin and toggles to indicate UART transmission. The pin is logic high when a transmission is not in progress.", 20 RX (in) "Asynchronous data input (UART Receive) for the UART Interface.", 21 TX (out) "Asynchronous data output (UART Transmit) for the UART Interface.", 22 GPIO.3/RS485 (io) "In GPIO mode, this pin is a user-configurable input or output. In RS-485 mode, this pin is the transmit active pin for the RS-485 transceiver.", 23 GPIO.2/~{CTS} (io) "In GPIO mode, this pin is a user-configurable input or output. In hardware flow control mode, this pin is the Clear To Send control input (active low) for the UART interface.", 24 GPIO.1/~{RTS} (io) "In GPIO mode, this pin is a user-configurable input or output. In hardware flow control mode, this pin is the Ready To Send control output (active low) for the UART interface", 25 GND (power)

## CP2110-F02-GM1
designator U?
Single-Chip HID USB to UART Bridge, 10 Dig I/O Pins, Internal Oscillator, 343 Bytes EEPROM, -40 to 85 degC, 28-pin QFN; Manufacturer: Silicon Labs; PartNumber: CP2110-F02-GM1; Internal Oscillator: TRUE; Sub-Family: USB Bridges; DatasheetVersion: Rev. 1.1; PackageReference: QFN-28; PackageDescription: 28-Pin Quad-Flat No-Leads Package, Body 5 x 5 mm, Pitch 0.5 mm; Supplier 1: Digi-Key; Supplier Part Number 1: 336-2138-5-ND; Supplier 2: Mouser; Supplier Part Number 2: 634-CP2110-F02-GM1; EEPROM: 343 Bytes; Mounting Technology: Surface Mount; Code_JEDEC: MO-220; Code_IPC: J-STD-020C; ComponentLink1Description: Manufacturer URL; ComponentLink1URL: http://www.silabs.com/; ComponentLink2Description: Datasheet; ComponentLink2URL: http://www.silabs.com/Support%20Documents/TechnicalDocs/CP2110.pdf; ComponentLink3Description: Package Specification; ComponentLink3URL: http://www.silabs.com/Support%20Documents/TechnicalDocs/C8051T61x.pdf
footprint SLAB-QFN-28-3125x3125TP_N (QFN, 28-Leads, Body 5x5mm, Pitch 0.5mm, Thermal Pad 3.13x3.13mm, IPC Medium Density)
footprint SLAB-QFN-28-3125x3125TP_L (QFN, 28-Leads, Body 5x5mm, Pitch 0.5mm, Thermal Pad 3.13x3.13mm, IPC High Density)
footprint SLAB-QFN-28-3125x3125TP_M (QFN, 28-Leads, Body 5x5mm, Pitch 0.5mm, Thermal Pad 3.13x3.13mm, IPC Low Density)
pins: 1 GPIO.3/RS485 (io) "In GPIO mode, this pin is a user-configurable input or output. In RS-485 mode, this pin is the transmit active pin for the RS-485 transceiver.", 2 GPIO.0/CLK (io) "In GPIO mode, this pin is a user-configurable input or output. In CLK mode, this pin outputs a configurable frequency clock signal.", 3 GND (power) "Ground. Must be tied to ground.", 4 D+ (io) "USB D+", 5 D- (io) "USB D-", 6 VDD (power) "Power Supply Voltage Input. Voltage Regulator Output. See Section 10.", 7 REGIN (power) "5 V Regulator Input. This pin is the input to the on-chip voltage regulator.", 8 VBUS (in) "VBUS Sense Input. This pin should be connected to the VBUS signal of a USB network.", 9 ~{RST} (io) "Device Reset. Open-drain output of internal POR or VDD monitor. An external source can initiate a system reset by driving this pin low for the time specified in Table 4.", 10 GPIO.9 (io) "This pin is a user-configurable input or output.", 11 ~{SUSPEND} (out) "This pin is logic low when the CP2110 is in the USB Suspend state.", 12 SUSPEND (out) "This pin is logic high when the CP2110 is in the USB Suspend state.", 13 NC "No connect. This pin should be left unconnected or tied to VIO.", 14 NC "No connect. This pin should be left unconnected or tied to VIO.", 15 NC "No connect. This pin should be left unconnected or tied to VIO.", 16 GPIO.8 (io) "This pin is a user-configurable input or output.", 17 GPIO.7 (io) "This pin is a user-configurable input or output.", 18 VPP "Connect 4.7 uF capacitor between this pin and ground to support ROM programming via the USB interface.", 19 GPIO.6 (io) "This pin is a user-configurable input or output.", 20 NC "No connect. This pin should be left unconnected or tied to VIO.", 21 NC "No connect. This pin should be left unconnected or tied to VIO.", 22 NC "No connect. This pin should be left unconnected or tied to VIO.", 23 GPIO.2/~{CTS} (io) "In GPIO mode, this pin is a user-configurable input or output. In hardware flow control mode, this pin is the Clear To Send control input (active low) for the UART interface.", 24 GPIO.1/~{RTS} (io) "In GPIO mode, this pin is a user-configurable input or output. In hardware flow control mode, this pin is the Ready To Send control output (active low) for the UART interface", 25 RX (in) "Asynchronous data input (UART Receive) for the UART Interface.", 26 TX (out) "Asynchronous data output (UART Transmit) for the UART Interface.", 27 GPIO.5/RXT (io) "In GPIO mode, this pin is a user-configurable input or output for the Standard Comm Interface. In RXT mode, this pin is the Receive Toggle pin. The pin is logic high when the UART is not receiving data.", 28 GPIO.4/TXT (io) "In GPIO mode, this pin is a user-configurable input or output. In TXT mode, this pin is the Transmit Toggle pin and toggles to indicate UART transmission. The pin is logic high when a transmission is not in progress.", 29 GND (power)

## CP2112-F02-GM
designator U?
Single-Chip HID USB to SMBus Master Bridge, 8 Dig I/O Pins, Internal Oscillator, 194 Bytes EEPROM, -40 to 85 degC, 24-pin QFN; Manufacturer: Silicon Labs; PartNumber: CP2112-F02-GM; Internal Oscillator: TRUE; Sub-Family: USB Bridges; DatasheetVersion: Rev. 1.1; PackageReference: QFN-24; PackageDescription: 24-Pin Quad-Flat No-Leads Package, Body 4 x 4 mm, Pitch 0.5 mm; Supplier 1: Digi-Key; Supplier Part Number 1: 336-2149-5-ND; Supplier 2: Mouser; Supplier Part Number 2: 634-CP2112-F02-GM; EEPROM: 194 Bytes; Mounting Technology: Surface Mount; Code_JEDEC: MO-220; Code_IPC: J-STD-020; ComponentLink1Description: Manufacturer URL; ComponentLink1URL: http://www.silabs.com/; ComponentLink2Description: Datasheet; ComponentLink2URL: http://www.silabs.com/Support%20Documents/TechnicalDocs/CP2112.pdf; ComponentLink3Description: Package Specification; ComponentLink3URL: http://www.silabs.com/Support%20Documents/TechnicalDocs/C8051F93x-92x.pdf
footprint SLAB-QFN-24-2675x2675TP_N (QFN, 24-Leads, Body 4x4mm, Pitch 0.5mm, Thermal Pad 2.68x2.68mm, IPC Medium Density)
footprint SLAB-QFN-24-2675x2675TP_L (QFN, 24-Leads, Body 4x4mm, Pitch 0.5mm, Thermal Pad 2.68x2.68mm, IPC High Density)
footprint SLAB-QFN-24-2675x2675TP_M (QFN, 24-Leads, Body 4x4mm, Pitch 0.5mm, Thermal Pad 2.68x2.68mm, IPC Low Density)
part A pins: 1 SDA (io) "Serial Data signal for SMBus interface.", 2 GND (power) "Ground. Must be tied to ground.", 3 D+ (io) "USB D+", 4 D- (io) "USB D-", 5 VIO (power) "I/O Supply Voltage Input.", 6 VDD (power) "Power Supply Voltage Input. Voltage Regulator Output. See Section 9.", 7 REGIN (power) "5 V Regulator Input. This pin is the input to the on-chip voltage regulator.", 8 VBUS (in) "VBUS Sense Input. This pin should be connected to the VBUS signal of a USB network.", 9 ~{RST} (io) "Device Reset. Open-drain output of internal POR or VDD monitor. An external source can initiate a system reset by driving this pin low for the time specified in Table 4.", 11 SUSPEND (out) "This pin is logic high when the CP2112 is in the USB Suspend state.", 12 GPIO.7_CLK (io) "This pin is a user-configurable input or output. In CLK mode, this pin outputs a clock signal whose frequency is configurable.", 13 GPIO.6 (io) "This pin is a user-configurable input or output.", 14 GPIO.5 (io) "This pin is a user-configurable input or output.", 15 GPIO.4 (io) "This pin is a user-configurable input or output.", 16 VPP "Connect a 4.7 uF capacitor between this pin and ground to support ROM programming via the USB interface.", 17 ~{SUSPEND} (out) "This pin is logic low when the CP2112 is in the USB Suspend state.", 20 GPIO.3 (io) "This pin is a user-configurable input or output.", 21 GPIO.2 (io) "This pin is a user-configurable input or output.", 22 GPIO.1_RXT (io) "This pin is a user-configurable input or output. In RXT mode, this pin is the Receive Toggle pin and toggles to indicate SMBus transmission. The pin is logic high when a transmission is not in progress", 23 GPIO.0_TXT (io) "This pin is a user-configurable input or output. In TXT mode, this pin is the Transmit Toggle pin and toggles to indicate SMBus transmission. The pin is logic high when a transmission is not in progress.", 24 SCL (io) "Serial Clock signal for SMBus interface.", 25 GND (power)
part B pins: 10 NC "This pin should be left unconnected of tied to VIO", 18 NC "No connect", 19 NC "No connect"

## CP2114-B01-GM
designator U?
Single-Chip USB Audio to I2S Digital Audio Bridge, 12 Dig I/O Pins, Internal Oscillator, 352 Bytes EEPROM, -40 to 85 degC, 32-pin QFN; Manufacturer: Silicon Labs; PartNumber: CP2114-B01-GM; Internal Oscillator: TRUE; Sub-Family: USB Bridges; DatasheetVersion: Rev. 1.0; PackageReference: QFN-32; PackageDescription: 32-Pin Quad-Flat No-Leads Package, Body 5 x 5 mm, Pitch 0.5 mm; Supplier 1: Digi-Key; Supplier Part Number 1: 336-2287-5-ND; Supplier 2: Mouser; Supplier Part Number 2: 634-CP2114-B01-GM; EEPROM: 352 Bytes; Mounting Technology: Surface Mount; Code_JEDEC: MO-220; Code_IPC: J-STD-020; ComponentLink1Description: Manufacturer URL; ComponentLink1URL: http://www.silabs.com/; ComponentLink2Description: Datasheet; ComponentLink2URL: http://www.silabs.com/Support%20Documents/TechnicalDocs/CP2114.pdf; ComponentLink3Description: Package Specification; ComponentLink3URL: http://www.silabs.com/Support%20Documents/TechnicalDocs/C8051F50x-51x.pdf
footprint SLAB-QFN-32-3300x3300TP_N (QFN, 32-Leads, Body 5x5mm, Pitch 0.5mm, Thermal Pad 3.3x3.3mm, IPC Medium Density)
footprint SLAB-QFN-32-3300x3300TP_L (QFN, 32-Leads, Body 5x5mm, Pitch 0.5mm, Thermal Pad 3.3x3.3mm, IPC High Density)
footprint SLAB-QFN-32-3300x3300TP_M (QFN, 32-Leads, Body 5x5mm, Pitch 0.5mm, Thermal Pad 3.3x3.3mm, IPC Low Density)
pins: 1 SDIN (in) "Serial data input signal for the I2S interface.", 2 SCK (out) "Serial clock output signal for the I2S interface.", 3 GND (power) "Ground. Must be tied to ground.", 4 D+ (io) "USB D+", 5 D- (io) "USB D-", 6 VIO (power) "I/O Supply Voltage Input.", 7 VDD (power) "Power Supply Voltage Input. Voltage Regulator Output. See Section 10.", 8 REGIN (power) "5 V Regulator Input. This pin is the input to the on-chip voltage regulator.", 9 VBUS (in) "VBUS Sense Input. This pin should be connected to the VBUS signal of a USB network.", 10 ~{RST} (io) "Device Reset. Open-drain output of internal POR or VDD monitor. An external source can initiate a system reset by driving this pin low for the time specified in Table 3.", 11 GPIO.6/RXT/DACSEL1 (io), 12 GPIO.4/RMUTELED (io), 13 GPIO.3/VOL+ (io), 14 GPIO.2/VOL- (io), 15 GPIO.11/RX (io), 16 GPIO.10/TX (io), 17 ~{SUSPEND} (out) "This pin indicates whether the device is in the USB Suspend or not (active low).", 18 SUSPEND (out) "This pin indicates whether the device is in the USB Suspend or not (active high).", 19 GPIO.7/RTS/DACSEL2 (io), 20 GPIO.8/CTS/DACSEL3 (io), 21 VPP "Connect a 4.7 uF capacitor between this pin and ground to support one-time programming via the USB interface.", 22 GPIO.9/CLKOUT (io), 23 LRCK (out) "Left-right clock output for the I2S interface.", 24 NC "This pin should be left unconnected or tied to VIO.", 25 MCLK (in) "Master clock input for the I2S interface.", 26 SCL (io) "Serial clock signal for the I2C interface.", 27 SDA (io) "Serial data signal for the I2C interface.", 28 GPIO.5/TXT/DACSEL0 (io), 29 GPIO.1/PMUTE (io), 30 GPIO.0/RMUTE (io), 31 EXTCLK (in) "External clock input of CP2114 (optional). An external clock is needed if the codec/DAC does not support a 12.000 MHz master clock (MCLK).", 32 SDOUT (out) "Serial data output signal for the I2S interface.", 33 GND (power) "Ground. Must be tied to ground."

## CP2120-GM
designator U?
SPI to I2C Bridge and GPIO Port Expander, 512 Bytes (buffer RAM), -40 to 85 degC, 20-pin QFN; Manufacturer: Silicon Labs; PartNumber: CP2120-GM; Internal Oscillator: TRUE; DatasheetVersion: Rev. 0.4; PackageReference: QFN-20; PackageDescription: 20-Pin Quad-Flat No-Leads Package, Body 4 x 4 mm, Pitch 0.5 mm; Supplier 1: Digi-Key; Supplier Part Number 1: 336-1324-ND; Supplier 2: Mouser; Supplier Part Number 2: 634-CP2120-GM; RAM: 512 Bytes (buffer RAM); Sub-Family: SPI to I2C; Mounting Technology: Surface Mount; ComponentLink1Description: Manufacturer URL; ComponentLink1URL: http://www.silabs.com/; ComponentLink2Description: Datasheet; ComponentLink2URL: http://www.silabs.com/Support Documents/TechnicalDocs/CP2120.pdf; ComponentLink3Description: Package Specification; ComponentLink3URL: http://www.silabs.com/Support%20Documents/TechnicalDocs/CP2120.pdf
footprint SLAB-QFN-20-2125x2125TP_V (QFN, 20-Leads, Body 4x4mm, Pitch 0.5mm, Thermal Pad 2.3x2.3mm)
pins: 1 SCLK (in) "SPI Clock Input", 2 GND (power) "Ground", 3 VDD (power) "Power Supply Pin", 4 ~{RST} (io) "Device Reset. Open-drain output of internal POR or VDD monitor. An external source can initiate a system reset by driving this pin low for at least 15 us.", 5 GPIO 0 (io) "General Purpose Configurable Digital Input/Output", 6 GPIO 7 (io) "General Purpose Configurable Digital Input/Output", 7 GPIO 6 (io) "General Purpose Configurable Digital Input/Output", 8 GPIO 5 (io) "General Purpose Configurable Digital Input/Output", 9 GPIO 4 (io) "General Purpose Configurable Digital Input/Output", 10 GPIO 3 (io) "General Purpose Configurable Digital Input/Output", 11 GPIO 2 (io) "General Purpose Configurable Digital Input/Output", 12 GPIO 1 (io) "General Purpose Configurable Digital Input/Output", 13 EINT (io) "Edge-Triggered Interrupt Source", 14 ~{INT} (out) "CP2120 Interrupt Indicator", 15 NC "Not connected, leave floating", 16 SCL (io) "I2C Clock Input/Output", 17 SDA (io) "I2C Data Input/Output", 18 ~{CS} (in) "SPI Slave Select", 19 MOSI (in) "SPI Slave Input", 20 MISO (hiz) "SPI Slave Output", 21 GND (power)

## CP2200-GQ
designator U?
Single-Chip Ethernet Controller, 30 Mbps, 8 kB Flash, -40 to 85 degC, 48-pin QFP, Tray; Manufacturer: Silicon Labs; PartNumber: CP2200-GQ; Flash: 8 kB; Parallel Host Interface: 8-bit non-multiplexed EMIF; Parallel Host Interface Speed: 30 Mbps; Pre-Programmed MAC Address: TRUE; RAM Size: 2 kB TX buffer; 4 kB RX buffer; Sub-Family: Ethernet Controllers; DatasheetVersion: Rev. 1.0; PackageReference: TQFP-48; PackageDescription: 48-pin TQFP, Body 7 x 7 mm, Pitch 0.5 mm; Supplier 1: Digi-Key; Supplier Part Number 1: 336-1312-ND; Supplier 2: Farnell; Supplier Part Number 2: 1186938; Supplier 3: Newark; Supplier Part Number 3: 96K8067; Supplier 4: Mouser; Supplier Part Number 4: 634-CP2200-GQ; Packing: Tray; Mounting Technology: Surface Mount; Code_JEDEC: MS-026; Code_IPC: J-STD-020; ComponentLink1Description: Manufacturer URL; ComponentLink1URL: http://www.silabs.com/; ComponentLink2Description: Datasheet; ComponentLink2URL: http://www.silabs.com/Support Documents/TechnicalDocs/CP2200.pdf; ComponentLink3Description: Package Specification; ComponentLink3URL: http://www.silabs.com/Support%20Documents/TechnicalDocs/CP2200.pdf
footprint SLAB-TQFP-48_N (QFP, 48-Leads, Body 7x7mm, Pitch 0.5mm, IPC Medium Density)
footprint SLAB-TQFP-48_L (QFP, 48-Leads, Body 7x7mm, Pitch 0.5mm, IPC High Density)
footprint SLAB-TQFP-48_M (QFP, 48-Leads, Body 7x7mm, Pitch 0.5mm, IPC Low Density)
part A pins: 2 ACT (hiz) "Activity LED. Push-pull output driven high for 50 ms when any packet is transmitted or received and driven low all other times.", 3 LINK (hiz) "Link LED. Push-pull output driven high when valid 10BASE-T link pulses are detected (Link Good) and driven low when valid 10BASE-T link pulses are not detected (Link Fail).", 4 AGND (power) "Analog Ground", 5 AV+ (power) "3.1-3.6 V Analog Power Supply Voltage Input.", 6 RX- (in) "10BASE-T Receive, Differential Input (Negative).", 7 RX+ (in) "10BASE-T Receive, Differential Input (Positive).", 9 TX+ (hiz) "10BASE-T Transmit, Differential Output (Positive).", 10 TX- (hiz) "10BASE-T Transmit, Differential Output (Negative).", 13 VDD1 (power) "3.1-3.6 V Digital Power Supply Voltage Input.", 14 DGND1 (power) "Digital Ground", 15 ~{RST} (io) "Device Reset. Open-drain output of internal POR and VDD monitor. An external source can initiate a system reset by driving this pin low for at least 15 us.", 16 D0/AD0 (io), 17 D1/AD1 (io), 18 D2/AD2 (io), 19 D3/AD3 (io), 20 D4/AD4 (io), 21 D5/AD5 (io), 22 D6/AD6 (io), 23 D7/AD7 (io), 27 A0 (in) "Bit 0, Non-Multiplexed Address Bus", 28 A1 (in) "Bit 1, Non-Multiplexed Address Bus", 29 A2 (in) "Bit 2, Non-Multiplexed Address Bus", 30 VDD2 (power) "3.1-3.6 V Digital Power Supply Voltage Input.", 31 DGND2 (power) "Digital Ground", 32 A3/ALE/(AS) (in), 33 A4 (in) "Bit 4, Parallel Interface Non-Multiplexed Address Bus", 34 A5 (in) "Bit 5, Parallel Interface Non-Multiplexed Address Bus", 37 A6 (in) "Bit 6, Parallel Interface Non-Multiplexed Address Bus", 38 A7 (in) "Bit 7, Parallel Interface Non-Multiplexed Address Bus", 39 ~{RD}/(~{DS}) (in) "Read Strobe (Intel Mode) or Data Strobe (Motorola Mode)", 40 ~{WR}/(R/~{W}) (in) "Write Strobe (Intel Mode) or Read/Write Strobe (Motorola Mode)", 41 ~{CS} (in) "Device Chip Select.", 42 ~{INT} (hiz) "Interrupt Service Request. This pin provides notification to the host.", 43 MOTEN (in) "Motorola Bus Format Enable. This pin should be tied directly to VDD for Motorola bus format or directly to GND for Intel bus format.", 44 MUXEN (in) "Multiplexed Bus Enable. This pin should be tied directly to VDD for multiplexed bus mode or directly to GND for non-multiplexed bus mode.", 45 XTAL2 "Crystal Output. This pin is the excitation driver for a quartz crystal.", 46 XTAL1 (in) "Crystal Input. This pin is the return for the external oscillator driver. This pin can be overdriven by an external CMOS clock."
part B pins: 1 NC "These pins should be left unconnected or tied to VDD.", 8 NC "These pins should be left unconnected or tied to VDD.", 11 NC "These pins should be left unconnected or tied to VDD.", 12 NC "These pins should be left unconnected or tied to VDD.", 24 NC "These pins should be left unconnected or tied to VDD.", 25 NC "These pins should be left unconnected or tied to VDD.", 26 NC "These pins should be left unconnected or tied to VDD.", 35 NC "These pins should be left unconnected or tied to VDD.", 36 NC "These pins should be left unconnected or tied to VDD.", 47 NC "These pins should be left unconnected or tied to VDD.", 48 NC "These pins should be left unconnected or tied to VDD."

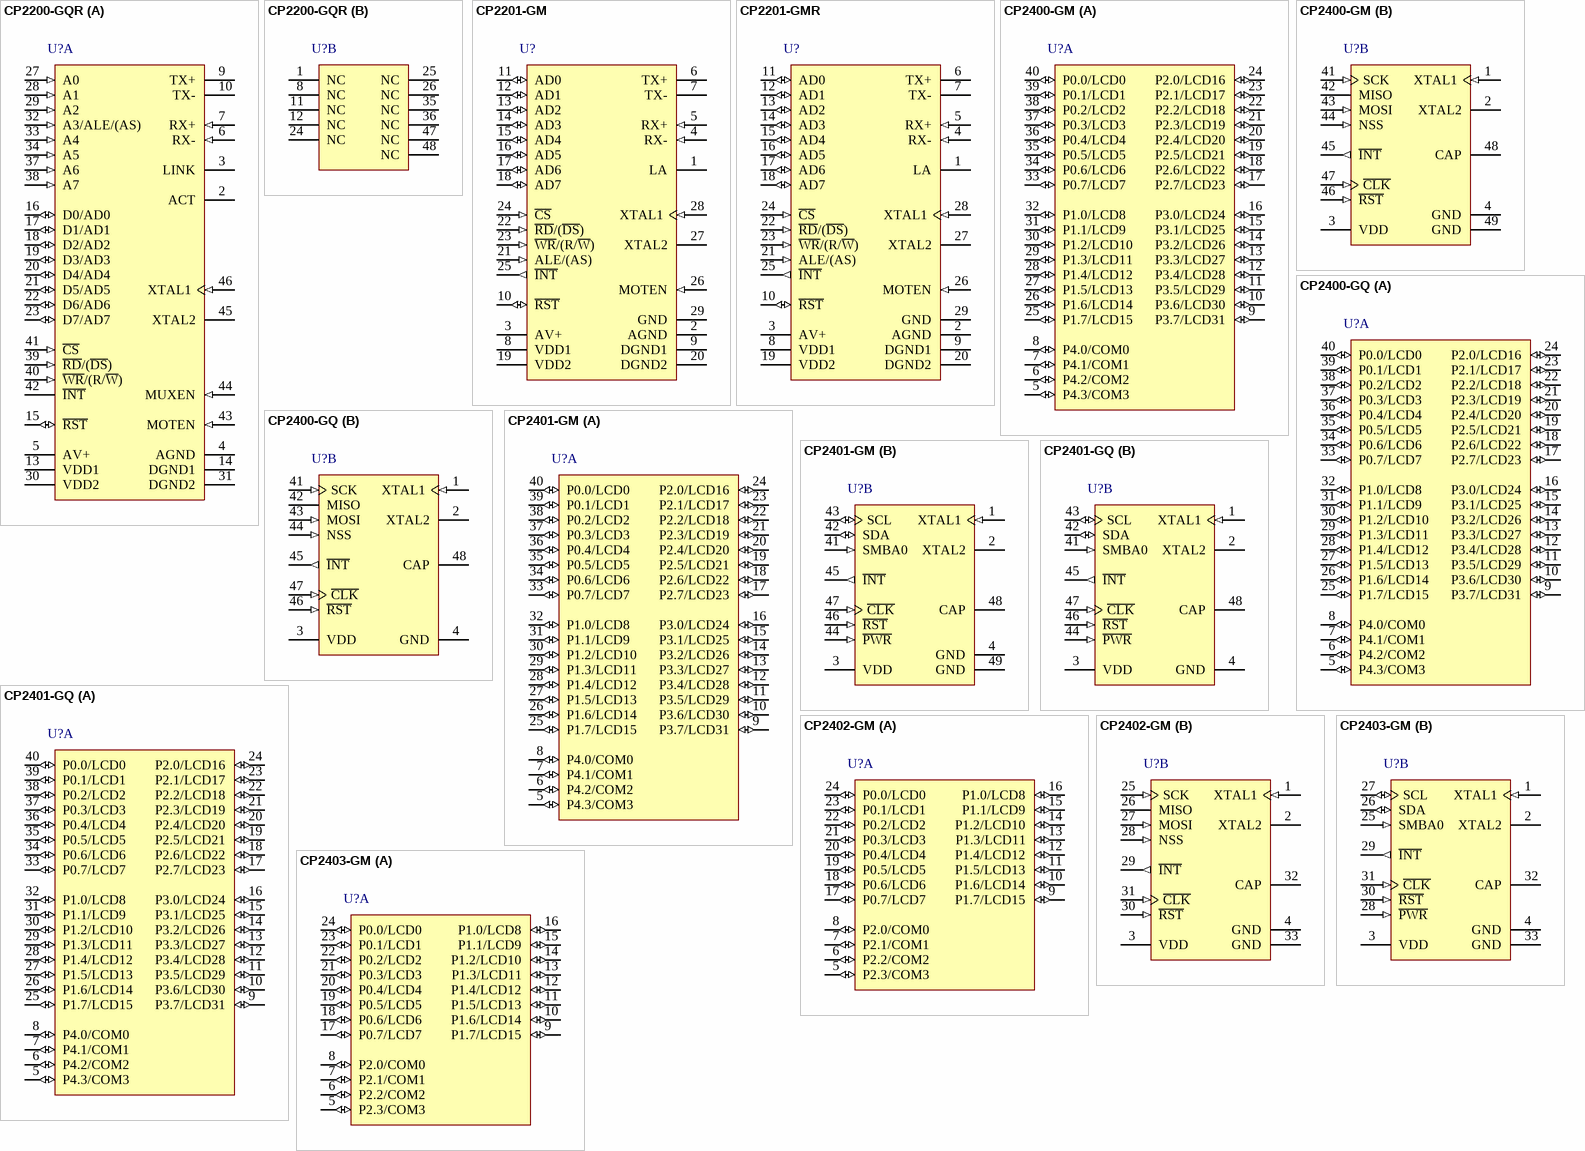
[diagram p1: symbols CP2200-GQR to CP2403-GM]